# EAGLE library part TAS5805M (library mb-DSPAMP)
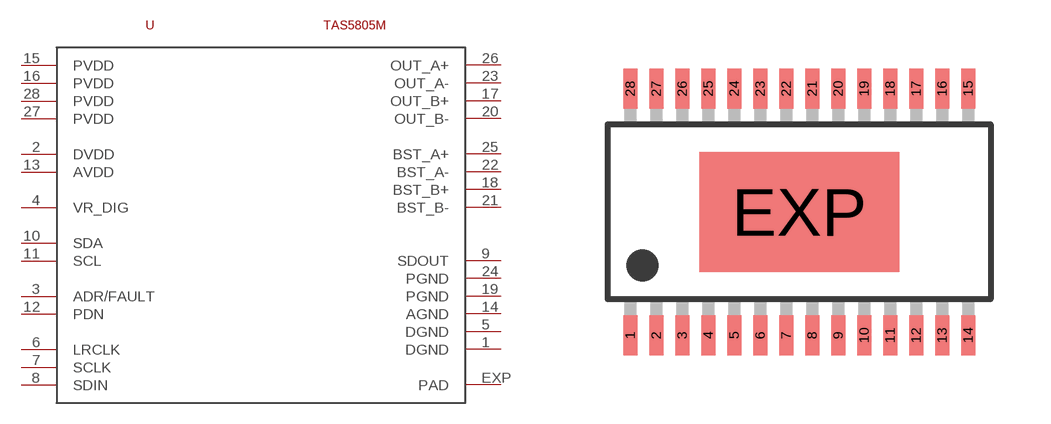
[diagram p0: symbol with the pads of TSSOP28; footprint TSSOP28]

Designator prefix -

## TAS5805M  [TSSOP28]
1  DGND
2  DVDD
3  ADR/FAULT
4  VR_DIG
5  DGND
6  LRCLK
7  SCLK
8  SDIN
9  SDOUT
10  SDA
11  SCL
12  PDN
13  AVDD
14  AGND
15  PVDD
16  PVDD
17  OUT_B+
18  BST_B+
19  PGND
20  OUT_B-
21  BST_B-
22  BST_A-
23  OUT_A-
24  PGND
25  BST_A+
26  OUT_A+
27  PVDD
28  PVDD
EXP  PAD

## Footprint TSSOP28 (pad centres in mm)
LP Package, 28-Pin TSSOP with Exposed Thermal Pad Source: http://allegromicro.com/datafile/3979.pdf
smd 0.35 x 1: 1 -4.225,-3.087; 2 -3.575,-3.087; 3 -2.925,-3.087; 4 -2.275,-3.087; 5 -1.625,-3.087; 6 -0.975,-3.087; 7 -0.325,-3.087; 8 0.325,-3.087; 9 0.975,-3.087; 10 1.625,-3.087; 11 2.275,-3.087; 12 2.925,-3.087; 13 3.575,-3.087; 14 4.225,-3.087; 15 4.225,3.087; 16 3.575,3.087; 17 2.925,3.087; 18 2.275,3.087; 19 1.625,3.087; 20 0.975,3.087; 21 0.325,3.087; 22 -0.325,3.087; 23 -0.975,3.087; 24 -1.625,3.087; 25 -2.275,3.087; 26 -2.925,3.087; 27 -3.575,3.087; 28 -4.225,3.087
smd 5 x 3: EXP 0,0